# EAGLE library part ST60-10P (library connector-hirose)
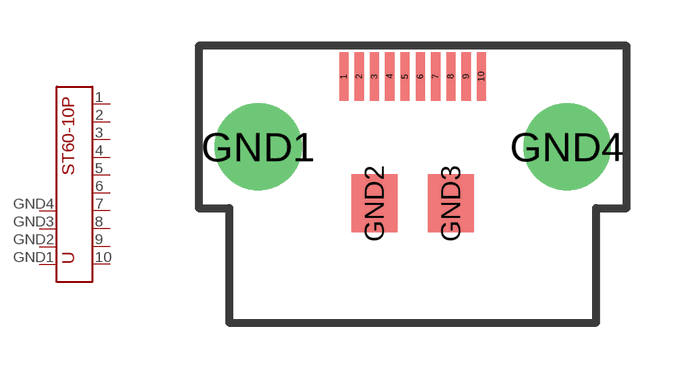
[diagram p1: symbol with the pads of ST60-10P; footprint ST60-10P]

Designator prefix -

## ST60-10P  [ST60-10P]
1  P$1
2  P$2
3  P$3
4  P$4
5  P$5
6  P$6
7  P$7
8  P$8
9  P$9
10  P$10
GND1  G1
GND2  G2
GND3  G3
GND4  G4

## Footprint ST60-10P (pad centres in mm)
smd 0.3 x 1.6: 1 -2.25,2.3; 2 -1.75,2.3; 3 -1.25,2.3; 4 -0.75,2.3; 5 -0.25,2.3; 6 0.25,2.3; 7 0.75,2.3; 8 1.25,2.3; 9 1.75,2.3; 10 2.25,2.3
drill 1.9: GND1 -5.05,0; GND4 5.05,0
smd 1.5 x 1.9: GND2 -1.25,-1.85; GND3 1.25,-1.85